# Altium schematic symbol library MESFET-P.Schlib: 1 symbol
Pins are listed as number, name and electrical type; pins without a type are passive.

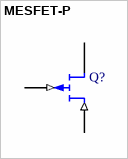
[diagram p0: symbol MESFET-P]

## MESFET-P
designator Q?
P-Channel MESFET
pins: 1 D (in), 2 G (in), 3 S